# EAGLE library part MCP1612 (library Microchip)
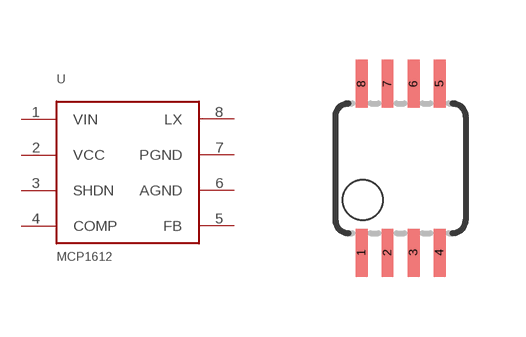
[diagram p1: symbol with the pads of MSOP08; footprint MSOP08]

Designator prefix U

## MCP1612  [MSOP08]
1  VIN
2  VCC
3  SHDN
4  COMP
5  FB
6  AGND
7  PGND
8  LX

## Footprint MSOP08 (pad centres in mm)
Mini Small Outline Package
smd 0.3 x 1.2: 1 -0.976,-2.113; 2 -0.326,-2.113; 3 0.324,-2.113; 4 0.974,-2.113; 5 0.974,2.112; 6 0.324,2.112; 7 -0.326,2.112; 8 -0.976,2.112